# Altium footprint library IND_VLS5045EX-221M-H.PcbLib: 1 footprints
Each footprint in its own frame and in the unit in brackets; x right, y up, seen from the top. Pads: shape width x height; smd on the part's side, far side on the other; paste and mask are expansions set on the pad; w line width, h text height; cw(c..) or ccw(c..) is an arc to the next point about the centre after c.
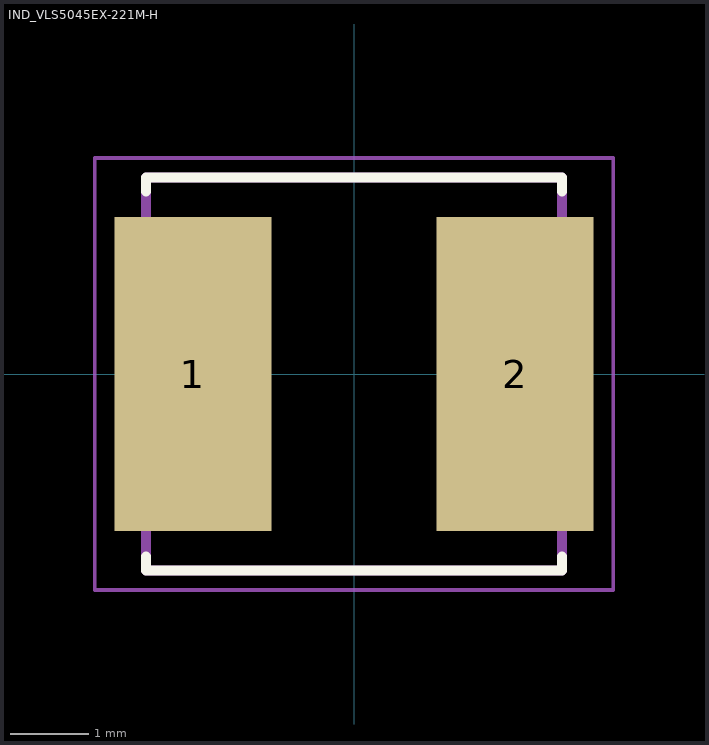
[diagram p0: the footprint, top view; thin cyan lines are the x and y axes]

## IND_VLS5045EX-221M-H [mm]
height 4.5
pads (2):
  rect 2x4 smd: 1(-2.05,0) 2(2.05,0)
Top Overlay:
  lines w0.127: -2.65,-2.32 -2.65,-2.5 2.65,-2.5 2.65,-2.32 ; -2.65,2.32 -2.65,2.5 2.65,2.5 2.65,2.32
Top 3D Body:
  lines w0.127: -2.65,-2.5 2.65,-2.5 2.65,2.5 -2.65,2.5 -2.65,-2.5
Top Courtyard:
  lines w0.05: -3.3,-2.75 3.3,-2.75 3.3,2.75 -3.3,2.75 -3.3,-2.75
3D body "step_temp.STEP": height 4.5, standoff 0, extent -2.65,-2.5 2.65,2.5